# Altium footprint library Microchip MCP6001UT Op Amp.PcbLib: 1 footprints
Each footprint in its own frame and in the unit in brackets; x right, y up, seen from the top. Pads: shape width x height; smd on the part's side, far side on the other; paste and mask are expansions set on the pad; w line width, h text height; cw(c..) or ccw(c..) is an arc to the next point about the centre after c.
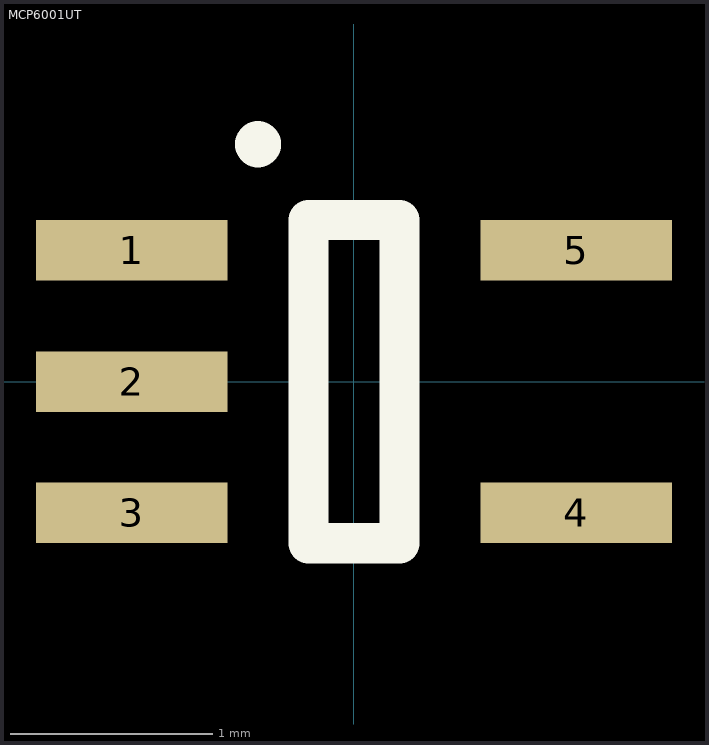
[diagram p0: the footprint, top view; thin cyan lines are the x and y axes]

## MCP6001UT [mm]
pads (5):
  rect 0.95x0.3 smd: 1(-1.1,0.65) 2(-1.1,0) 3(-1.1,-0.65) 4(1.1,-0.65) 5(1.1,0.65)
Top Overlay:
  circle w0.178: c-0.475,1.175 r0.025
  lines w0.2: -0.225,-0.8 0.225,-0.8 0.225,0.8 -0.225,0.8 -0.225,-0.8